# EAGLE library part MCP6004 (library general)
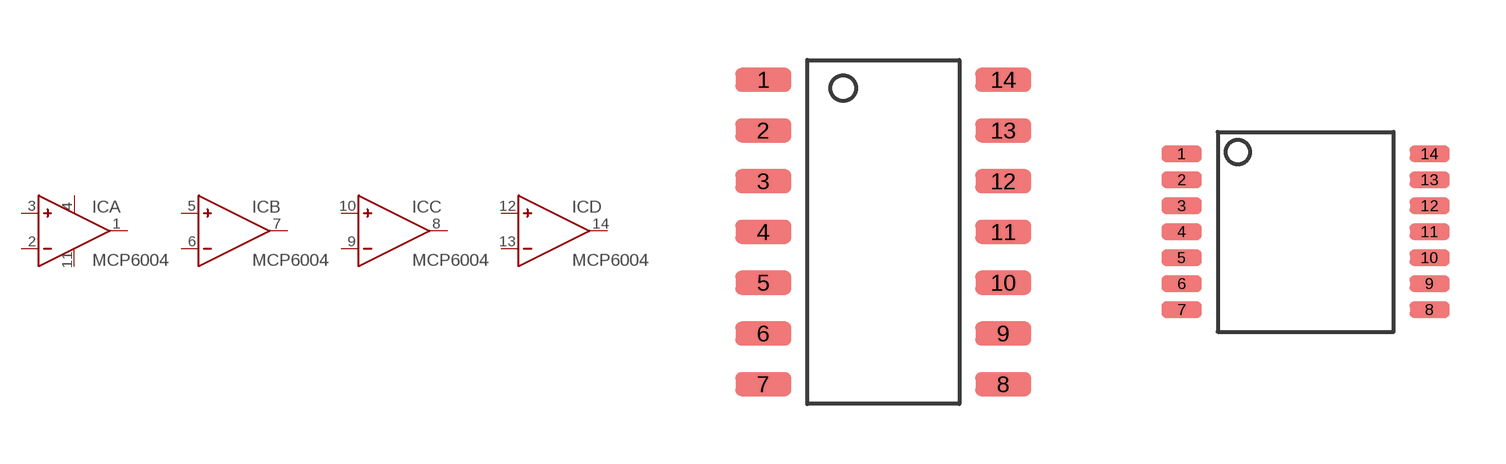
[diagram p7: symbol with the pads of SOIC14_2; footprints SOIC14_2, TSSOP14]

Designator prefix IC; gates A=OPAMP_VCC_GND B=OPAMP C=OPAMP D=OPAMP

## MCP6004_X/SL  [SOIC14_2]
1  A:OUT
2  A:IN-
3  A:IN+
4  A:VDD
5  B:IN+
6  B:IN-
7  B:OUT
8  C:OUT
9  C:IN-
10  C:IN+
11  A:VSS
12  D:IN+
13  D:IN-
14  D:OUT

## MCP6004_X/ST  [TSSOP14]
Pads as for SOIC14_2

## Footprint SOIC14_2 (pad centres in mm)
smd 1.4 x 0.6: 1 -3,3.81; 2 -3,2.54; 3 -3,1.27; 4 -3,0; 5 -3,-1.27; 6 -3,-2.54; 7 -3,-3.81; 8 3,-3.81; 9 3,-2.54; 10 3,-1.27; 11 3,0; 12 3,1.27; 13 3,2.54; 14 3,3.81

## Footprint TSSOP14 (pad centres in mm)
smd 1 x 0.4: 1 -3.1,1.95; 2 -3.1,1.3; 3 -3.1,0.65; 4 -3.1,0; 5 -3.1,-0.65; 6 -3.1,-1.3; 7 -3.1,-1.95; 8 3.1,-1.95; 9 3.1,-1.3; 10 3.1,-0.65; 11 3.1,0; 12 3.1,0.65; 13 3.1,1.3; 14 3.1,1.95